# Altium schematic symbol library BaseLibrary.SchLib: 1 symbol
Pins are listed as number, name and electrical type; pins without a type are passive.

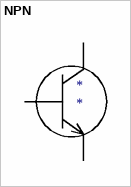
[diagram p0: symbol NPN]

## NPN
designator *
pins: 1 "collector", 2 "base", 3 "emitter"